# Altium schematic symbol library relay.SchLib: 38 symbols
Pins are listed as number, name and electrical type; pins without a type are passive.

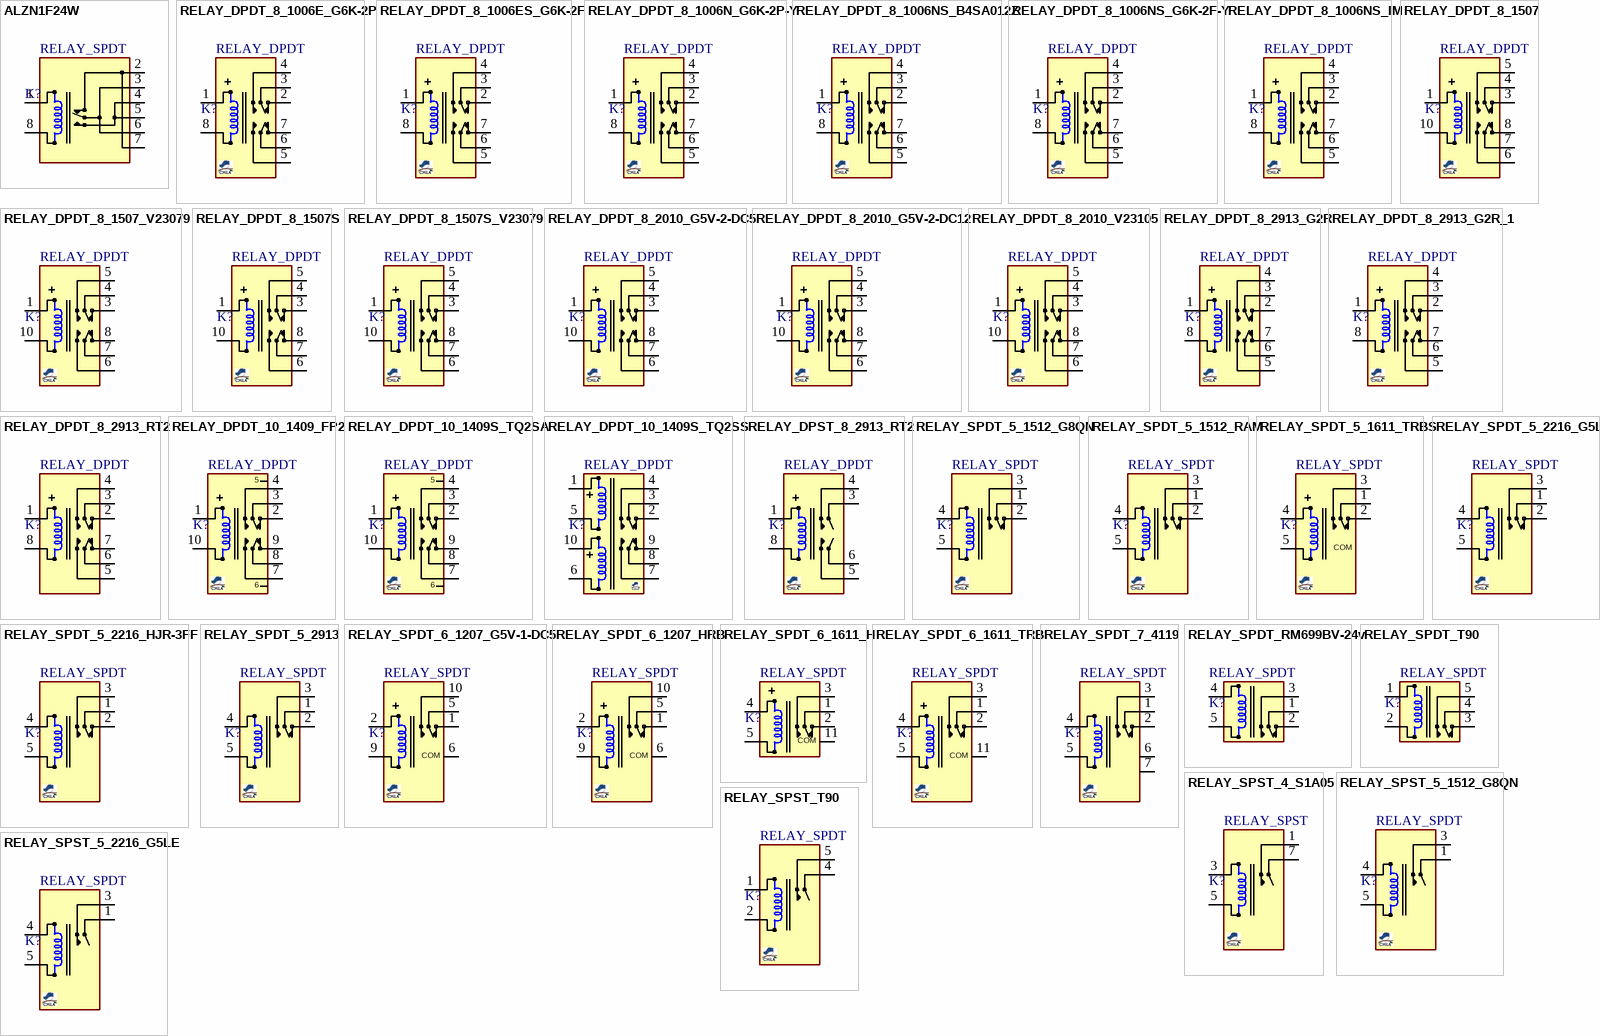
[diagram p0: symbols ALZN1F24W to RELAY_SPST_T90]

## ALZN1F24W
designator K?, comment RELAY_SPDT
Relay, SPDT, 5P, 28.8X12.7mm, 250V/16A; MANF: OMRON, IDEC; MANF_P#: G2RL-1-E-DC12, RJ1V-C-D12; PARAM2: 16A, 250VAC/24VDC; PARAM: 12V, 33mA, 360Ohm; PRICE: 3$; Value: RELAY_SPDT
footprint REL_DPDT_8_2913 (RELAY, DPDT, 8P, 2.54mm pitch, 29X13mm, G2R-2C, HHC69A, NNC69A, JQX-14FC)
simulation model SPDTRELAY (Spice Subcircuit)
pins: 1 T1, 2 NC, 3 COM, 4 NC, 5 NC, 6 COM, 7 NO, 8 T2

## RELAY_DPDT_8_1006E_G6K-2P
designator K?, comment RELAY_DPDT
Relay, DPDT, 8P, 10X6mm, G6K-2P-Y 30VDC/1A; MANF: OMRON; MANF_P#: G6K-2P-DC5; PARAM2: 1A, 30VDC; PARAM: 5V, 21mA, 237Ohm; PRICE: 4.2$; Value: RELAY_DPDT
footprint REL_DPDT_8_1006E (RELAY, DPDT, 10X6.5X5mm, OMRON G6K-2P EQUAL pitch 2.54mm)
simulation model SPDTRELAY (Spice Subcircuit)
pins: 1 T1, 2 NC1, 3 COM1, 4 NO1, 5 NO2, 6 COM2, 7 NC1, 8 T2

## RELAY_DPDT_8_1006ES_G6K-2F
designator K?, comment RELAY_DPDT
Relay, DPDT, LATCHING, 8P, 10X6mm, G6K 30VDC/1A; MANF: OMRON; MANF_P#: G6K-2F-DC5; PARAM2: 1A, 30VDC; PARAM: 5V, 21mA, 237Ohm; PRICE: 4.2$; Value: RELAY_DPDT
footprint REL_DPDT_8_1006ES (RELAY, DPDT, 10X6mm, SMD, Equal pitch 2.54mm, G6K-2F)
simulation model SPDTRELAY (Spice Subcircuit)
pins: 1 T1, 2 NC1, 3 COM1, 4 NO1, 5 NO2, 6 COM2, 7 NC1, 8 T2

## RELAY_DPDT_8_1006N_G6K-2P-Y
designator K?, comment RELAY_DPDT
Relay, DPDT, 8P, 10X6mm, G6K-2P-Y 30VDC/1A; MANF: OMRON; MANF_P#: G6K-2P-Y-DC5; PARAM2: 1A, 30VDC; PARAM: 5V, 21mA, 237Ohm; PRICE: 4.2$; Value: RELAY_DPDT
footprint REL_DPDT_8_1006N (RELAY, DPDT, 10X6.5X5mm, OMRON G6K-2P-Y, Not equal pitch)
simulation model SPDTRELAY (Spice Subcircuit)
pins: 1 T1, 2 NC1, 3 COM1, 4 NO1, 5 NO2, 6 COM2, 7 NC1, 8 T2

## RELAY_DPDT_8_1006NS_B4SA012Z
designator K?, comment RELAY_DPDT
Relay, DPDT, 8P, 10X6mm, G6K 30VDC/2A SMD; MANF: FUJITSU; MANF_P#: FTR-B4SA012Z; PARAM2: 1A, 30VDC/125VAC 0.3A; PARAM: 12V, 12mA, 1028Ohm; PRICE: -; Value: RELAY_DPDT
footprint REL_DPDT_8_1006NS (RELAY, DPDT, 10X6mm, TE IM48DGR SMD, Not equal pitch)
simulation model SPDTRELAY (Spice Subcircuit)
pins: 1 T1, 2 NC1, 3 COM1, 4 NO1, 5 NO2, 6 COM2, 7 NC1, 8 T2

## RELAY_DPDT_8_1006NS_G6K-2F-Y
designator K?, comment RELAY_DPDT
Relay, DPDT, 8P, 10X6mm, G6K 30VDC/2A SMD; MANF: OMRON; MANF_P#: G6K-2F-Y-DC5; PARAM2: 1A, 30VDC; PARAM: 5V, 21mA, 237Ohm; PRICE: 4.2$; Value: RELAY_DPDT
footprint REL_DPDT_8_1006NS (RELAY, DPDT, 10X6mm, TE IM48DGR SMD, Not equal pitch)
simulation model SPDTRELAY (Spice Subcircuit)
pins: 1 T1, 2 NC1, 3 COM1, 4 NO1, 5 NO2, 6 COM2, 7 NC1, 8 T2

## RELAY_DPDT_8_1006NS_IM
designator K?, comment RELAY_DPDT
Relay, DPDT, LATCHING, 8P, 10X6mm, IM 30VDC/2A; MANF: TE AXICOM; MANF_P#: IM48DGR; PARAM2: 2A, 30VDC; PARAM: 2.4V, 40mA, 58Ohm, 900MHz; PRICE: 4.8$; Value: RELAY_DPDT
footprint REL_DPDT_8_1006NS (RELAY, DPDT, 10X6mm, TE IM48DGR SMD, Not equal pitch)
simulation model SPDTRELAY (Spice Subcircuit)
pins: 1 T1, 2 NC1, 3 COM1, 4 NO1, 5 NO2, 6 COM2, 7 NC1, 8 T2

## RELAY_DPDT_8_1507
designator K?, comment RELAY_DPDT
Relay, DPDT, 8P, 15X7mm, FX2 250VAC/2A; MANF: TE AXICOM, OMRON; MANF_P#: D3209, G6S-2F; PARAM2: 2A, 220VDC/250VAC; PARAM: 5V, 30mA, 180Ohm; PRICE: PRICE; Value: RELAY_DPDT
footprint REL_DPDT_8_1507 (RELAY, DPDT, 8P, 2.54mm pitch, 15X7.5mm, TE FX2)
simulation model SPDTRELAY (Spice Subcircuit)
pins: 1 T1, 3 NC1, 4 COM1, 5 NO1, 6 NO2, 7 COM2, 8 NC1, 10 T2

## RELAY_DPDT_8_1507_V23079
designator K?, comment RELAY_DPDT
Relay, DPDT, 8P, 15X7mm, P2 30VDC/2A; MANF: TE AXICOM; MANF_P#: V23079A1001B301; PARAM2: 2A, 30VDC; PARAM: 5VDC, 28mA; PRICE: PRICE; Value: RELAY_DPDT
footprint REL_DPDT_8_1507 (RELAY, DPDT, 8P, 2.54mm pitch, 15X7.5mm, TE FX2)
simulation model SPDTRELAY (Spice Subcircuit)
pins: 1 T1, 3 NC1, 4 COM1, 5 NO1, 6 NO2, 7 COM2, 8 NC1, 10 T2

## RELAY_DPDT_8_1507S
designator K?, comment RELAY_DPDT
Relay, DPDT, 8P, 15X7mm, 250VAC/2A SMD; MANF: TE AXICOM, OMRON; MANF_P#: G6S-2F; PARAM2: 2A, 220VDC/250VAC; PARAM: 5V, 30mA, 180Ohm; PRICE: PRICE; Value: RELAY_DPDT
footprint REL_DPDT_8_1507S (RELAY, DPDT SMD, 8P, 2.54mm pitch, 15X7.5X9.6mm)
simulation model SPDTRELAY (Spice Subcircuit)
pins: 1 T1, 3 NC1, 4 COM1, 5 NO1, 6 NO2, 7 COM2, 8 NC1, 10 T2

## RELAY_DPDT_8_1507S_V23079
designator K?, comment RELAY_DPDT
Relay, DPDT, 8P, 15X7mm, P2 250VAC/2A SMD; MANF: TE AXICOM; MANF_P#: V23079D2001B301; PARAM2: 2A, 220VDC/250VAC; PARAM: 5V, 30mA, 180Ohm; PRICE: PRICE; Value: RELAY_DPDT
footprint REL_DPDT_8_1507S (RELAY, DPDT SMD, 8P, 2.54mm pitch, 15X7.5X9.6mm)
simulation model SPDTRELAY (Spice Subcircuit)
pins: 1 T1, 3 NC1, 4 COM1, 5 NO1, 6 NO2, 7 COM2, 8 NC1, 10 T2

## RELAY_DPDT_8_2010_G5V-2-DC5
designator K?, comment RELAY_DPDT
Relay, DPDT, 8P, 20.5X10.2mm, G5V-2 125VAC/0.5A; MANF: OMRON; MANF_P#: G5V-2-H1-DC5; PARAM2: 0.5A, 125VAC/2A, 30VDC; PARAM: 5V, 30mA, 167Ohm; PRICE: 3$; Value: RELAY_DPDT
footprint REL_DPDT_8_2010 (RELAY, DPDT, 8P, 2.54mm pitch, 20.5X10.2mm, G5V-2)
simulation model SPDTRELAY (Spice Subcircuit)
pins: 1 T1, 3 NC1, 4 COM1, 5 NO1, 6 NO2, 7 COM2, 8 NC1, 10 T2

## RELAY_DPDT_8_2010_G5V-2-DC12
designator K?, comment RELAY_DPDT
Relay, DPDT, 8P, 20.5X10.2mm, G5V-2 125VAC/0.5A; MANF: OMRON; MANF_P#: G5V-2-H1-DC12; PARAM2: 0.5A, 125VAC/2A, 30VDC; PARAM: 12V, 12mA, 960Ohm; PRICE: 3$; Value: RELAY_DPDT
footprint REL_DPDT_8_2010 (RELAY, DPDT, 8P, 2.54mm pitch, 20.5X10.2mm, G5V-2)
simulation model SPDTRELAY (Spice Subcircuit)
pins: 1 T1, 3 NC1, 4 COM1, 5 NO1, 6 NO2, 7 COM2, 8 NC1, 10 T2

## RELAY_DPDT_8_2010_V23105
designator K?, comment RELAY_DPDT
Relay, DPDT, 8P, 20.5X10.2mm, V23105 250VAC/3A; MANF: TE; PARAM2: 3A, 250VAC/220VDC; PARAM: 5V, 30mA, 280Ohm; MANF_P#: V23105; PRICE: 2$; Value: RELAY_DPDT
footprint REL_DPDT_8_2010 (RELAY, DPDT, 8P, 2.54mm pitch, 20.5X10.2mm, G5V-2)
simulation model SPDTRELAY (Spice Subcircuit)
pins: 1 T1, 3 NC1, 4 COM1, 5 NO1, 6 NO2, 7 COM2, 8 NC1, 10 T2

## RELAY_DPDT_8_2913_G2R
designator K?, comment RELAY_DPDT
Relay, DPDT, 8P, 29X13mm, G2R 110VAC/5A; MANF: OMRON; MANF_P#: G2R-2-DC12; PARAM2: 5A, 110VAC; PARAM: 12V, 30mA, 360Ohm; PRICE: 3$; Value: RELAY_DPDT
footprint REL_DPDT_8_1507 (RELAY, DPDT, 8P, 2.54mm pitch, 15X7.5mm, TE FX2)
simulation model SPDTRELAY (Spice Subcircuit)
pins: 1 T1, 2 NC1, 3 COM1, 4 NO1, 5 NO2, 6 COM2, 7 NC1, 8 T2

## RELAY_DPDT_8_2913_G2R_1
designator K?, comment RELAY_DPDT
Relay, DPDT, 8P, 29X13mm, G2R 240VAC/5A; MANF: OMRON; MANF_P#: G2R-2-DC12; PARAM2: 5A, 240VAC; PARAM: 24V, -mA, -Ohm; PRICE: 3$; Value: RELAY_DPDT
footprint REL_DPDT_8_2913 (RELAY, DPDT, 8P, 2.54mm pitch, 29X13mm, G2R-2C, HHC69A, NNC69A, JQX-14FC)
simulation model SPDTRELAY (Spice Subcircuit)
pins: 1 T1, 2 NC1, 3 COM1, 4 NO1, 5 NO2, 6 COM2, 7 NC1, 8 T2

## RELAY_DPDT_8_2913_RT2
designator K?, comment RELAY_DPDT
Relay, DPDT, 8P, 29X13mm, RT2, 400VAC/8A; MANF: TE; MANF_P#: RTE24012; PARAM2: 8A, 400VAC; PARAM: 12V, 30mA, 360Ohm; PRICE: 3$; Value: RELAY_DPDT
footprint REL_DPDT_8_2913 (RELAY, DPDT, 8P, 2.54mm pitch, 29X13mm, G2R-2C, HHC69A, NNC69A, JQX-14FC)
simulation model SPDTRELAY (Spice Subcircuit)
pins: 1 T1, 2 NC1, 3 COM1, 4 NO1, 5 NO2, 6 COM2, 7 NC1, 8 T2

## RELAY_DPDT_10_1409_FP2
designator K?, comment RELAY_DPDT
Relay, SPDT, 10P, 14X9mm, FP2 250VAC/2A; MANF: TE AXICOM; MANF_P#: D3023; PARAM2: 2A, 220VDC/250VAC; PARAM: 5V, 16mA, 313Ohm; PRICE: PRICE; Value: RELAY_DPDT
footprint REL_DPDT_10_1409 (RELAY, DPDT, 10P, 14X9mm, TE FP2)
simulation model SPDTRELAY (Spice Subcircuit)
pins: 1 T1, 2 NC1, 3 COM1, 4 NO1, 7 NO2, 8 COM2, 9 NC1, 10 T2
text: 5; 6

## RELAY_DPDT_10_1409S_TQ2SA
designator K?, comment RELAY_DPDT
Relay, SPDT, 10P, 14X9mm, TQ2SA 220VAC/2A; MANF: PANASONIC; MANF_P#: TQ2SA-5V; PARAM2: 2A, 220VAC/30VDC; PARAM: 5V, 28mA, 178Ohm; PRICE: 3.7$; Value: RELAY_DPDT
footprint REL_DPDT_10_1409S (RELAY, DPDT, 10P, 14X9mm, TQ2SA)
simulation model SPDTRELAY (Spice Subcircuit)
pins: 1 T1, 2 NC1, 3 COM1, 4 NO1, 7 NO2, 8 COM2, 9 NC1, 10 T2
text: 5; 6

## RELAY_DPDT_10_1409S_TQ2SS
designator K?, comment RELAY_DPDT
Relay, SPDT, 10P, 14X9mm, TQ2SS 220VAC/2A; MANF: PANASONIC; MANF_P#: TQ2SS-5V-Z; PARAM2: 2A, 220VAC/30VDC; PARAM: 5V, 28mA, 178Ohm; PRICE: 4$; Value: RELAY_DPDT
footprint REL_DPDT_10_1409S (RELAY, DPDT, 10P, 14X9mm, TQ2SA)
simulation model SPDTRELAY (Spice Subcircuit)
pins: 1 T11, 2 NC1, 3 COM1, 4 NO1, 5 T12, 6 T22, 7 NO2, 8 COM2, 9 NC1, 10 T21

## RELAY_DPST_8_2913_RT2
designator K?, comment RELAY_DPDT
Relay, DPDT, 8P, 29X13mm, RT2, 400VAC/8A; MANF: TE; MANF_P#: RTE24012; PARAM2: 8A, 400VAC; PARAM: 12V, 30mA, 360Ohm; PRICE: 3$; Value: RELAY_DPDT
footprint REL_DPDT_8_2913 (RELAY, DPDT, 8P, 2.54mm pitch, 29X13mm, G2R-2C, HHC69A, NNC69A, JQX-14FC)
simulation model SPDTRELAY (Spice Subcircuit)
pins: 1 T1, 3 COM1, 4 NO1, 5 NO2, 6 COM2, 8 T2

## RELAY_SPDT_5_1512_G8QN
designator K?, comment RELAY_SPDT
Relay, SPDT, 5P, 15.4X12.1mm, 16V/30A; MANF: OMRON; MANF_P#: G8QN-1C4 DC12; PARAM2: 16VDC, 30A; PARAM: 12V, 50mA; PRICE: PRICE; Value: RELAY_SPDT
footprint REL_SPDT_5_1512 (RELAY, SPDT, 15.40x12.10x14.0mm, G8QN, SUN HOLD RAM)
simulation model SPDTRELAY (Spice Subcircuit)
pins: 1 COM, 2 NC, 3 NO, 4 T1, 5 T2

## RELAY_SPDT_5_1512_RAM
designator K?, comment RELAY_SPDT
Relay, SPDT, 5P, 15.4X12.1mm, 14V/20A; MANF: SUN HOLD; MANF_P#: RAM-1C-12; PARAM2: 14V, 20A; PARAM: 12V, 50mA; PRICE: PRICE; Value: RELAY_SPDT
footprint REL_SPDT_5_1512 (RELAY, SPDT, 15.40x12.10x14.0mm, G8QN, SUN HOLD RAM)
simulation model SPDTRELAY (Spice Subcircuit)
pins: 1 COM, 2 NC, 3 NO, 4 T1, 5 T2

## RELAY_SPDT_5_1611_TRBS
designator K?, comment RELAY_SPDT
Relay, SPDT, 5P, 15.5X11mm, TRB 125VAC/1A; MANF: TTI; MANF_P#: TRBS-6VDC-SA-CL; PARAM2: 1A, 125VAC/30VDC; PARAM: 12V, 17mA, 720Ohm; PRICE: -; Value: RELAY_SPDT
footprint REL_SPDT_5_1611 (Footprint not found)
simulation model SPDTRELAY (Spice Subcircuit)
pins: 1 COM, 2 NC, 3 NO, 4 T1, 5 T2

## RELAY_SPDT_5_2216_G5LE
designator K?, comment RELAY_SPDT
Relay, SPDT, 5P, 22X16mm, 120V/10A; MANF: OMRON; MANF_P#: G5LE-1; PARAM2: 250VAC, 10A; PARAM: 12V, 50mA; PRICE: PRICE; Value: RELAY_SPDT
footprint REL_SPDT_5_2216 (RELAY SPDT, OMRON G5LE SERIES, 22X16mm and 18.8x15.4mm, HJR-3FF, RAS-1215)
simulation model SPDTRELAY (Spice Subcircuit)
pins: 1 COM, 2 NC, 3 NO, 4 T1, 5 T2

## RELAY_SPDT_5_2216_HJR-3FF
designator K?, comment RELAY_SPDT
Relay, SPDT, 5P, 19X15mm, 240VAC/7A; MANF: TIANBO; MANF_P#: HJR-3FF--12VDC; PARAM2: 7A, 240VAC /10A 120VAC/24VDC; PARAM: 12V, 30mA, 400Ohm; PRICE: PRICE; Value: RELAY_SPDT
footprint REL_SPDT_5_2216 (RELAY SPDT, OMRON G5LE SERIES, 22X16mm and 18.8x15.4mm, HJR-3FF, RAS-1215)
simulation model SPDTRELAY (Spice Subcircuit)
pins: 1 COM, 2 NC, 3 NO, 4 T1, 5 T2

## RELAY_SPDT_5_2913
designator K?, comment RELAY_SPDT
Relay, SPDT, 5P, 28.8X12.7mm, 250V/16A; MANF: OMRON, IDEC; MANF_P#: G2RL-1-E-DC12, RJ1V-C-D12; PARAM2: 16A, 250VAC/24VDC; PARAM: 12V, 33mA, 360Ohm; PRICE: 3$; Value: RELAY_SPDT
footprint REL_SPDT_5_2913
simulation model SPDTRELAY (Spice Subcircuit)
pins: 1 COM, 2 NC, 3 NO, 4 T1, 5 T2

## RELAY_SPDT_6_1207_G5V-1-DC5
designator K?, comment RELAY_SPDT
Relay, SPDT, 5P, 12.5X7.5mm, G5V-1 125VAC/0.5A; MANF: OMRON; MANF_P#: G5V-1-T90 DC5, G5V-1-DC5; PARAM2: 0.5A, 125VAC/1A, 30VDC; PARAM: 5V, 30mA, 167Ohm; PRICE: 1.7$; Value: RELAY_SPDT
footprint REL_SPDT_6_1207 (RELAY, SPDT, 6P, 2.54mm pitch, 12.5X7.5mm, G5V-1)
simulation model SPDTRELAY (Spice Subcircuit)
pins: 1 NC, 2 T1, 5 COM, 6 COM, 9 T2, 10 NO

## RELAY_SPDT_6_1207_HRB
designator K?, comment RELAY_SPDT
Relay, SPDT, 5P, 12.5X7.5mm, HRB1-(S); MANF: OMRON; MANF_P#: HRB1-(S)-DC6V; PARAM2: 125VAC/1A, 30VDC; PARAM: 6V, 25mA, 240Ohm; PRICE: 1.7$; Value: RELAY_SPDT
footprint REL_SPDT_6_1207 (RELAY, SPDT, 6P, 2.54mm pitch, 12.5X7.5mm, G5V-1)
simulation model SPDTRELAY (Spice Subcircuit)
pins: 1 NC, 2 T1, 5 COM, 6 COM, 9 T2, 10 NO

## RELAY_SPDT_6_1611_H
designator K?, comment RELAY_SPDT
Relay, SPDT, 5P, 15.7X11mm, HFD41 240VAC/1A; MANF: HONGFA; MANF_P#: HFD41-09, HK4100F; PARAM2: 1A, 240VAC/30VDC; PARAM: 9V, 40mA, 220Ohm; PRICE: 1.7$; Value: RELAY_SPDT
footprint REL_SPDT_6_1611 (Footprint not found)
simulation model SPDTRELAY (Spice Subcircuit)
pins: 1 COM, 2 NC, 3 NO, 4 T1, 5 T2, 11 COM

## RELAY_SPDT_6_1611_TRB
designator K?, comment RELAY_SPDT
Relay, SPDT, 5P, 15.5X11mm, TRB 125VAC/1A; MANF: TTI; MANF_P#: TRB-12VDC-A; PARAM2: 1A, 125VAC/30VDC; PARAM: 12V, 17mA, 720Ohm; PRICE: -; Value: RELAY_SPDT
footprint REL_SPDT_6_1611 (Footprint not found)
simulation model SPDTRELAY (Spice Subcircuit)
pins: 1 COM, 2 NC, 3 NO, 4 T1, 5 T2, 11 COM

## RELAY_SPDT_7_4119
designator K?, comment RELAY_SPDT
Relay, SPDT, 5P+2, 24X19mm, 12VDC/40A; MANF: FOOCLE; MANF_P#: FLS822-4119; PARAM2: 14VDC, 40A; PARAM: 12V; PRICE: PRICE; Value: RELAY_SPDT
footprint REL_SPDT_7_2419 (RELAY SPDT, 4119, 23.8X19.2mm, 4119 car Relay 40A)
simulation model SPDTRELAY (Spice Subcircuit)
pins: 1 COM, 2 NC, 3 NO, 4 T1, 5 T2, 6 COM, 7 COM

## RELAY_SPDT_RM699BV-24v
designator K?, comment RELAY_SPDT
Relay, SPDT, 5P, 19X15mm, 240VAC/7A; MANF: TIANBO; MANF_P#: HJR-3FF--12VDC; PARAM2: 7A, 240VAC /10A 120VAC/24VDC; PARAM: 12V, 30mA, 400Ohm; PRICE: PRICE; Value: RELAY_SPDT
footprint REL_SPDT_RM699BV
simulation model SPDTRELAY (Spice Subcircuit)
pins: 1 COM, 2 NC, 3 NO, 4 T1, 5 T2

## RELAY_SPDT_T90
designator K?, comment RELAY_SPDT
Relay, SPDT, 5P, T90, 250VAC/30A; MANF: TE, NHT, HLS, SONG-CHUAN, SUN-HOLD; MANF_P#: T90N5D12-12, JQX-15F/005; PARAM2: 250VAC, 30A; PARAM: 12V, 80mA, 150Ohm; PRICE: PRICE; Value: RELAY_SPDT
footprint REL_SPDT_5_T90
simulation model SPDTRELAY (Spice Subcircuit)
pins: 1 T1, 2 T2, 3 NC, 4 COM, 5 NO

## RELAY_SPST_4_S1A05
designator K?, comment RELAY_SPST
Relay, SPDT, 5P, 19X5mm, 200VDC/1A; MANF: cosmo; MANF_P#: S1A050000; PARAM2: 200VDC, 1A; PARAM: 5V, 10mA, 500Ohm; PRICE: PRICE; Value: RELAY_SPST
footprint REL_SPST_4_1950 (Footprint not found)
pins: 1 NO, 3 T1, 5 T2, 7 COM

## RELAY_SPST_5_1512_G8QN
designator K?, comment RELAY_SPDT
Relay, SPDT, 5P, 15.4X12.1mm, 16V/30A; MANF: OMRON; MANF_P#: G8QN; PARAM2: 16VDC, 30A; PARAM: 12V, 50mA; PRICE: PRICE; Value: RELAY_SPDT
footprint REL_SPDT_5_1512 (RELAY, SPDT, 15.40x12.10x14.0mm, G8QN, SUN HOLD RAM)
simulation model SPDTRELAY (Spice Subcircuit)
pins: 1 COM, 3 NO, 4 T1, 5 T2

## RELAY_SPST_5_2216_G5LE
designator K?, comment RELAY_SPDT
Relay, SPDT, 5P, 22X16mm, 120V/10A; MANF: OMRON; MANF_P#: G5LE-1; PARAM2: 250VAC, 10A; PARAM: 12V, 50mA; PRICE: PRICE; Value: RELAY_SPDT
footprint REL_SPDT_5_2216 (RELAY SPDT, OMRON G5LE SERIES, 22X16mm and 18.8x15.4mm, HJR-3FF, RAS-1215)
simulation model SPDTRELAY (Spice Subcircuit)
pins: 1 COM, 3 NO, 4 T1, 5 T2

## RELAY_SPST_T90
designator K?, comment RELAY_SPDT
Relay, SPDT, 5P, T90, 250VAC/30A; MANF: TE, NHT, HLS, SONG CHUAN; MANF_P#: T9AS1D22-12, T90S1D12-12, HLS-T90(15F)-DC12V-C, 832HA-1C-F; PARAM2: 250VAC, 30A; PARAM: 12V, 80mA, 150Ohm; PRICE: PRICE; Value: RELAY_SPDT
footprint REL_SPDT_5_T90
simulation model SPDTRELAY (Spice Subcircuit)
pins: 1 T1, 2 T2, 4 COM, 5 NO